# EAGLE library part WE-RJ45_7499410221 (library WE-RJ45_LAN)
WE-RJ45 LAN Transformer Characteristics RJ45 Connector with integrated transformer / common mode choke Power over Ethernet up to 50 Watt and speeds up to 10 Gbit/s Available in SMD, THT and THT with USB Compliant with standards: IEEE 802.3u, IEEE 802.3ab, IEEE 802.3af, IEEE 802.3at, IEEE 802.3an and upcoming IEE 802.3bt Applications Suitable for industrial temperatures from –40 °C up to +85 °C Compatible to Industrial Ethernet systems like EtherCAT or Profinet Compliant with most IC’s for Ethernet applications such as Microchip, Texas Instruments, Broadcom, Linear Technology Hubs, Routers, Switches, IP cameras, IoT applications Details see: www.we-online.com/components/products/WE-LAN-RJ45 Updated by Ella Wu 2019-08-05 2019 (C) Würth Elektronik
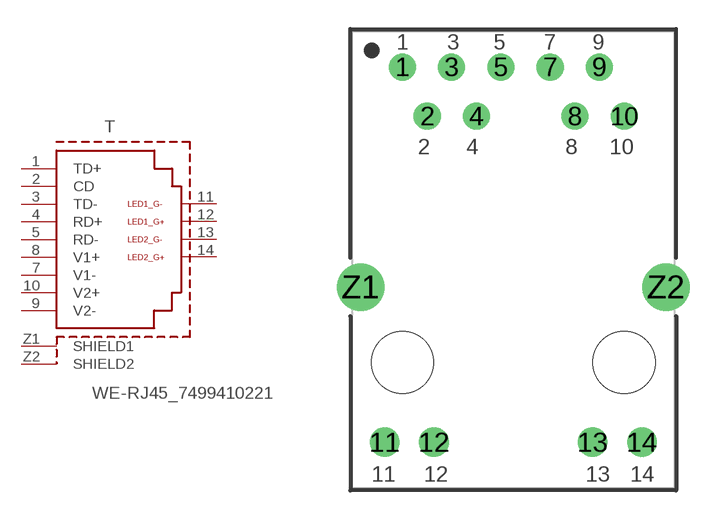
[diagram p47: symbol with the pads of 7499410221; footprint 7499410221]

Designator prefix T

## WE-RJ45_7499410221 (DATA-RATE: 10/100BASE-T; DATASHEET: https://www.we-online.com/redexpert/spec/7499410221?ae; IMPROVED-CMRR: No; LED: green-green; MOUNT: THT; OPERATING-TEMPERATURE: -40 °C up to +85 °C; PART-NUMBER: 7499410221; PHY-CHIP-MODE: current; POE: PoE+; PORTS: 1; SHIELD-TABS: No; TAB: Vertical; USB: No; VALUE: 7499410221)  [7499410221]
1  TD+  pas
2  CD  pas
3  TD-  pas
4  RD+  pas
5  RD-  pas
7  V1-  pas
8  V1+  pas
9  V2-  pas
10  V2+  pas
11  LED1_G-  pas
12  LED1_G+  pas
13  LED2_G-  pas
14  LED2_G+  pas
Z1  SHIELD1  pas
Z2  SHIELD2  pas

## Footprint 7499410221 (pad centres in mm)
WE-RJ45 LAN Transformer 10/100BASE-T, Ports:1, Tab:Vertical
drill 0.89: 1 -5.72,15.24; 2 -4.44,12.7; 3 -3.18,15.24; 4 -1.9,12.7; 5 -0.64,15.24; 7 1.9,15.24; 8 3.18,12.7; 9 4.44,15.24; 10 5.72,12.7
drill 1.02: 11 -6.635,-4.11; 12 -4.095,-4.11; 13 4.095,-4.11; 14 6.635,-4.11
drill 1.63: Z1 -7.875,3.89; Z2 7.875,3.89
hole 3.2 at -5.715,0
hole 3.2 at 5.715,0